# Altium footprint library CT2220.PcbLib: 1 footprints
Each footprint in its own frame and in the unit in brackets; x right, y up, seen from the top. Pads: shape width x height; smd on the part's side, far side on the other; paste and mask are expansions set on the pad; w line width, h text height; cw(c..) or ccw(c..) is an arc to the next point about the centre after c.
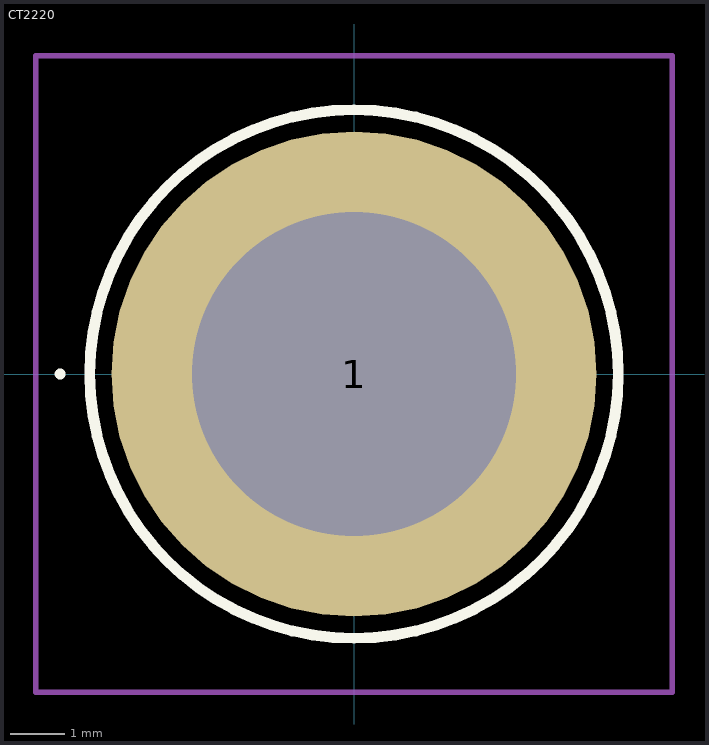
[diagram p0: the footprint, top view; thin cyan lines are the x and y axes]

## CT2220 [mm]
pads (1):
  round 9 hole 6: 1(0,0)
Top Overlay:
  lines w0.1: -5.5,0 cw(c-5.45,0) -5.4,0 ; -5.5,0 -5.5,0 ; -5.5,0 ccw(c-5.45,0) -5.4,0 ; -5.4,0 -5.4,0
  lines w0.2: -4.9,0 -4.9,0 ; -4.9,0 ccw(c0,0) 4.9,0 ; -4.9,0 cw(c0,0) 4.9,0 ; 4.9,0 4.9,0
Mechanical 15:
  lines w0.1: -4.9,0 -4.9,0 ; -4.9,0 ccw(c0,0) 4.9,0 ; -4.9,0 cw(c0,0) 4.9,0 ; 4.9,0 4.9,0
Mechanical 20:
  lines w0.1: -5.9,-5.9 5.9,-5.9 5.9,5.9 -5.9,5.9 -5.9,-5.9